# Altium schematic symbol library Nexperia, NVT2008BQ.SchLib: 1 symbol
Pins are listed as number, name and electrical type; pins without a type are passive.

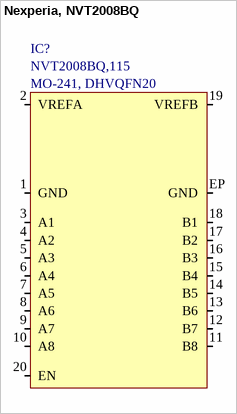
[diagram p0: symbol Nexperia, NVT2008BQ]

## Nexperia, NVT2008BQ
designator IC?  Manufacturer Part Number: NVT2008BQ,115  Package: MO-241, DHVQFN20  (hidden comment: *)
IC, Buffer, MO-241, DHVQFN20; Manufacturer: Nexperia; ComponentLink1Description: Datasheet; ComponentLink1URL: E:\Altium\Datasheets\IC - Buffer\Nexperia, NVT2008, NVT2010.pdf; ComponentLink2Description: Supplier Link; ComponentLink2URL: https://www.digikey.com/en/products/detail/nxp-usa-inc/NVT2008BQ-115/2530654; Supplier: Digikey; Supplier Part Number: 568-5538-1-ND; Operating Temperature, Min: -40℃; Operating Temperature, Max: +85℃; Quantity, Min: 1; Quantity, Max: 3000; Price, Min: 0.56589; Supplier Currency: $; Price, Max: 1.18; Supplier Link: https://www.digikey.com/en/products/detail/nxp-usa-inc/NVT2008BQ-115/2530654; Component Type: Buffer; Component Category: IC
footprint MO-241, DHVQFN20
pins: 1 GND, 2 VREFA, 3 A1, 4 A2, 5 A3, 6 A4, 7 A5, 8 A6, 9 A7, 10 A8, 11 B8, 12 B7, 13 B6, 14 B5, 15 B4, 16 B3, 17 B2, 18 B1, 19 VREFB, 20 EN, EP GND